# Altium footprint library Transmitter.PcbLib: 18 footprints (part 1 of 2)
Each footprint in its own frame and in the unit in brackets; x right, y up, seen from the top. Pads: shape width x height; smd on the part's side, far side on the other; paste and mask are expansions set on the pad; w line width, h text height; cw(c..) or ccw(c..) is an arc to the next point about the centre after c.
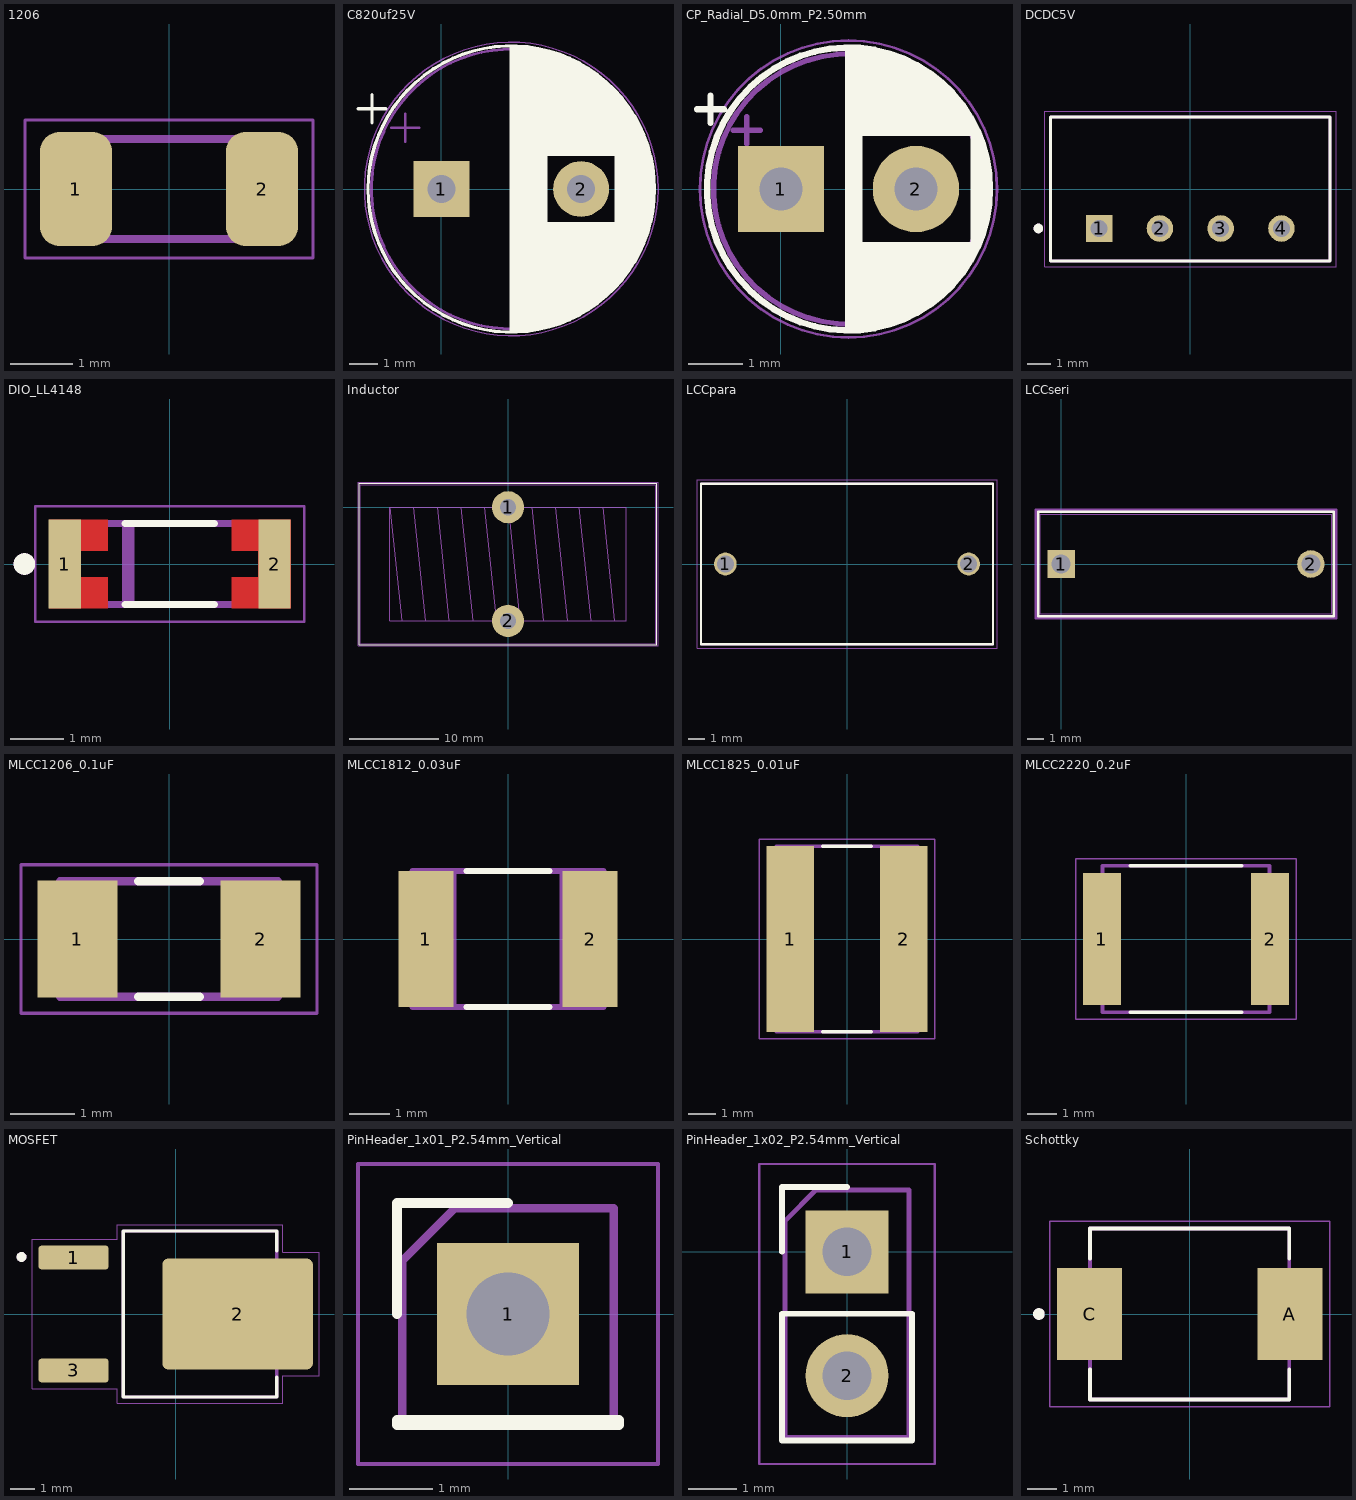
[diagram p0: the footprints below, top view; thin cyan lines are the x and y axes]

## 1206 [mm]
pads (2):
  rrect54% 1.15x1.82 smd: 1(-1.485,0) 2(1.485,0)
Mechanical 13:
  lines w0.127: -1.6,-0.8 -1.6,0.8 1.6,0.8 1.6,-0.8 -1.6,-0.8
Mechanical 15:
  lines w0.05: -2.3,-1.1 -2.3,1.1 2.3,1.1 2.3,-1.1 -2.3,-1.1
3D body "GRM31CR61C226KE15L.STEP": height 1.56, standoff -0.04, extent -1.651,-0.9 1.549,0.9

## C820uf25V [mm]
pads (2):
  rect 2x2 hole 1: 1(0,0)
  round 2 hole 1: 2(5,0)
Top Overlay:
  drawing of 193 lines, arcs and shapes, not listed
Mechanical 4:
  circle w0.05: c2.5,0 r5.25
Mechanical 6:
  circle w0.1: c2.5,0 r5
  lines w0.1: -1.789,2.187 -0.789,2.187 ; -1.289,1.687 -1.289,2.688
  text "'.Designator'" at 1.061,-0.398 h1
3D body "CP_Radial_D10.0mm_P5.00mm.step": height 10, standoff -2, extent -2.5,-4.998 7.5,5

## CP_Radial_D5.0mm_P2.50mm [mm]
pads (2):
  rect 1.6x1.6 hole 0.8: 1(0,0)
  round 1.6 hole 0.8: 2(2.5,0)
Top Overlay:
  circle w0.12: c1.25,0 r2.62
  lines w0.12: -1.555,1.475 -1.055,1.475 ; -1.305,1.225 -1.305,1.725 ; 1.25,-2.58 1.25,2.58 ; 1.29,-2.58 1.29,2.58 ; 1.33,-2.579 1.33,2.579 ; 1.37,-2.578 1.37,2.578 ; 1.41,-2.576 1.41,2.576 ; 1.45,-2.573 1.45,2.573 ; 1.49,-2.569 1.49,-1.04 ; 1.49,1.04 1.49,2.569 ; 1.53,-2.565 1.53,-1.04 ; 1.53,1.04 1.53,2.565 ; 1.57,-2.561 1.57,-1.04 ; 1.57,1.04 1.57,2.561 ; 1.61,-2.556 1.61,-1.04 ; 1.61,1.04 1.61,2.556 ; 1.65,-2.55 1.65,-1.04 ; 1.65,1.04 1.65,2.55 ; 1.69,-2.543 1.69,-1.04 ; 1.69,1.04 1.69,2.543 ; 1.73,-2.536 1.73,-1.04 ; 1.73,1.04 1.73,2.536 ; 1.77,-2.528 1.77,-1.04 ; 1.77,1.04 1.77,2.528 ; 1.81,-2.52 1.81,-1.04 ; 1.81,1.04 1.81,2.52 ; 1.85,-2.511 1.85,-1.04 ; 1.85,1.04 1.85,2.511 ; 1.89,-2.501 1.89,-1.04 ; 1.89,1.04 1.89,2.501 ; 1.93,-2.491 1.93,-1.04 ; 1.93,1.04 1.93,2.491 ; 1.971,-2.48 1.971,-1.04 ; 1.971,1.04 1.971,2.48 ; 2.011,-2.468 2.011,-1.04 ; 2.011,1.04 2.011,2.468 ; 2.051,-2.455 2.051,-1.04 ; 2.051,1.04 2.051,2.455 ; 2.091,-2.442 2.091,-1.04 ; 2.091,1.04 2.091,2.442 ; 2.131,-2.428 2.131,-1.04 ; 2.131,1.04 2.131,2.428 ; 2.171,-2.414 2.171,-1.04 ; 2.171,1.04 2.171,2.414 ; 2.211,-2.398 2.211,-1.04 ; 2.211,1.04 2.211,2.398 ; 2.251,-2.382 2.251,-1.04 ; 2.251,1.04 2.251,2.382 ; 2.291,-2.365 2.291,-1.04 ; 2.291,1.04 2.291,2.365 ; 2.331,-2.348 2.331,-1.04 ; 2.331,1.04 2.331,2.348 ; 2.371,-2.329 2.371,-1.04 ; 2.371,1.04 2.371,2.329 ; 2.411,-2.31 2.411,-1.04 ; 2.411,1.04 2.411,2.31 ; 2.451,-2.29 2.451,-1.04 ; 2.451,1.04 2.451,2.29 ; 2.491,-2.268 2.491,-1.04 ; 2.491,1.04 2.491,2.268 ; 2.531,-2.247 2.531,-1.04 ; 2.531,1.04 2.531,2.247 ; 2.571,-2.224 2.571,-1.04 ; 2.571,1.04 2.571,2.224 ; 2.611,-2.2 2.611,-1.04 ; 2.611,1.04 2.611,2.2 ; 2.651,-2.175 2.651,-1.04 ; 2.651,1.04 2.651,2.175 ; 2.691,-2.149 2.691,-1.04 ; 2.691,1.04 2.691,2.149 ; 2.731,-2.122 2.731,-1.04 ; 2.731,1.04 2.731,2.122 ; 2.771,-2.095 2.771,-1.04 ; 2.771,1.04 2.771,2.095 ; 2.811,-2.065 2.811,-1.04 ; 2.811,1.04 2.811,2.065 ; 2.851,-2.035 2.851,-1.04 ; 2.851,1.04 2.851,2.035 ; 2.891,-2.004 2.891,-1.04 ; 2.891,1.04 2.891,2.004 ; 2.931,-1.971 2.931,-1.04 ; 2.931,1.04 2.931,1.971 ; 2.971,-1.937 2.971,-1.04 ; 2.971,1.04 2.971,1.937 ; 3.011,-1.901 3.011,-1.04 ; 3.011,1.04 3.011,1.901 ; 3.051,-1.864 3.051,-1.04 ; 3.051,1.04 3.051,1.864 ; 3.091,-1.826 3.091,-1.04 ; 3.091,1.04 3.091,1.826 ; 3.131,-1.785 3.131,-1.04 ; 3.131,1.04 3.131,1.785 ; 3.171,-1.743 3.171,-1.04 ; 3.171,1.04 3.171,1.743 ; 3.211,-1.699 3.211,-1.04 ; 3.211,1.04 3.211,1.699 ; 3.251,-1.653 3.251,-1.04 ; 3.251,1.04 3.251,1.653 ; 3.291,-1.605 3.291,-1.04 ; 3.291,1.04 3.291,1.605 ; 3.331,-1.554 3.331,-1.04 ; 3.331,1.04 3.331,1.554 ; 3.371,-1.5 3.371,-1.04 ; 3.371,1.04 3.371,1.5 ; 3.411,-1.443 3.411,-1.04 ; 3.411,1.04 3.411,1.443 ; 3.451,-1.383 3.451,-1.04 ; 3.451,1.04 3.451,1.383 ; 3.491,-1.319 3.491,-1.04 ; 3.491,1.04 3.491,1.319 ; 3.531,-1.251 3.531,-1.04 ; 3.531,1.04 3.531,1.251 ; 3.571,-1.178 3.571,1.178 ; 3.611,-1.098 3.611,1.098 ; 3.651,-1.011 3.651,1.011 ; 3.691,-0.915 3.691,0.915 ; 3.731,-0.805 3.731,0.805 ; 3.771,-0.677 3.771,0.677 ; 3.811,-0.518 3.811,0.518 ; 3.851,-0.284 3.851,0.284
Mechanical 4:
  circle w0.05: c1.25,0 r2.75
Mechanical 6:
  circle w0.1: c1.25,0 r2.5
  lines w0.1: -0.884,1.088 -0.384,1.088 ; -0.634,0.837 -0.634,1.338
  text "'.Designator'" at -0.189,-0.398 h1
3D body "CP_Radial_D5.0mm_P2.50mm.step": height 5, standoff -2, extent -1.25,-2.5 3.75,2.5

## DCDC5V [mm]
height 10.15
pads (4):
  rect 1.11x1.11 / inner round 1.11 / far side rect 1.11x1.11 hole 0.71: 1(-3.81,-1.65)
  round 1.11 hole 0.71: 2(-1.27,-1.65) 3(1.27,-1.65) 4(3.81,-1.65)
Top Overlay:
  circle w0.2: c-6.35,-1.65 r0.1
  lines w0.127: -5.84,-3 5.84,-3 5.84,3 -5.84,3 -5.84,-3
Mechanical 13:
  circle w0.2: c-6.35,-1.65 r0.1
  lines w0.127: -5.84,-3 5.84,-3 5.84,3 -5.84,3 -5.84,-3
Mechanical 15:
  lines w0.05: -6.09,-3.25 -6.09,3.25 6.09,3.25 6.09,-3.25 -6.09,-3.25
3D body "step_temp.STEP": height 10.77, standoff -2.43, extent -5.711,-2.952 5.969,3.048

## DIO_LL4148 [mm]
height 1.5
pads (2):
  rect 0.6x1.65 smd: 1(-1.95,0) 2(1.95,0)
Top Layer:
  region: -1.15,0.25 -1.65,0.25 -1.65,-0.25 -1.15,-0.25 -1.15,-0.825 -2.24,-0.825 -2.24,0.825 -1.15,0.825
  region: 2.25,-0.825 1.15,-0.825 1.15,-0.25 1.65,-0.25 1.65,0.25 1.15,0.25 1.15,0.825 2.25,0.825
Top Overlay:
  circle w0.2: c-2.7,0 r0.1
  lines w0.127: -0.83,-0.75 0.83,-0.75 ; -0.83,0.75 0.83,0.75
Top Paste:
  region: -1.15,0.25 -1.65,0.25 -1.65,0.825 -1.15,0.825
  region: -1.15,-0.825 -1.65,-0.825 -1.65,-0.25 -1.15,-0.25
  region: -1.15,-0.825 -1.65,-0.825 -1.65,-0.25 -1.15,-0.25
  region: 1.65,-0.825 1.15,-0.825 1.15,-0.25 1.65,-0.25
  region: 1.65,0.25 1.15,0.25 1.15,0.825 1.65,0.825
  region: 1.65,0.25 1.15,0.25 1.15,0.825 1.65,0.825
Top Solder:
  region: -1.05,0.15 -1.55,0.15 -1.55,0.925 -1.05,0.925
  region: -1.05,-0.925 -1.55,-0.925 -1.55,-0.15 -1.05,-0.15
  region: 1.55,-0.925 1.05,-0.925 1.05,-0.15 1.55,-0.15
  region: 1.55,0.15 1.05,0.15 1.05,0.925 1.55,0.925
Mechanical 13:
  circle w0.2: c-2.7,0 r0.1
  lines w0.127: -0.82,-0.75 -0.82,0.75 ; -0.72,-0.75 -0.72,0.75 ; -1.82,-0.75 -1.82,0.75 1.82,0.75 1.82,-0.75 -1.82,-0.75
Mechanical 15:
  lines w0.05: -2.5,-1.075 -2.5,1.075 2.5,1.075 2.5,-1.075 -2.5,-1.075
3D body "step_temp.STEP": height 1.4, standoff 0, extent -1.7,-0.7 1.7,0.7

## Inductor [mm]
pads (2):
  round 3.6 hole 1.8: 1(0,0) 2(0,-12.7)
Top Overlay:
  lines w0.12: -16.631,-15.36 -16.631,2.66 16.631,2.66 16.631,-15.36 -16.631,-15.36
Mechanical 4:
  lines w0.05: -16.77,-15.49 16.77,-15.49 16.77,2.8 -16.77,2.8 -16.77,-15.49
Mechanical 6:
  lines w0.1: -11.887,-12.7 -13.208,0 ; -10.566,0 -9.246,-12.7 ; -7.925,0 -6.604,-12.7 ; -5.283,0 -3.962,-12.7 ; -2.642,0 -1.321,-12.7 ; 0,0 1.321,-12.7 ; 2.642,0 3.962,-12.7 ; 5.283,0 6.604,-12.7 ; 7.925,0 9.246,-12.7 ; 10.566,0 11.887,-12.7 ; -13.208,0 13.208,0 13.208,-12.7 -13.208,-12.7 -13.208,0 ; -16.51,-15.24 16.51,-15.24 16.51,2.54 -16.51,2.54 -16.51,-15.24
  text "'.Designator'" at 4.911,-0.398 h1
3D body "inductor2 v1.step": height 36.79, standoff -10.7, extent -23.39,-13.219 24.138,0.776

## LCCpara [mm]
pads (2):
  round 1.4 hole 1.05: 1(-7.5,0) 2(7.5,0)
Top Overlay:
  lines w0.127: -9,-4.95 -9,4.95 9,4.95 9,-4.95 -9,-4.95
Mechanical 13:
  lines w0.127: -9,-4.95 9,-4.95 9,4.95 -9,4.95 -9,-4.95
Mechanical 15:
  lines w0.05: -9.25,-5.2 9.25,-5.2 9.25,5.2 -9.25,5.2 -9.25,-5.2
3D body "ECWF4364HL.step": height 16.2, standoff -23.5, extent -9,-4.95 9,4.95

## LCCseri [mil]
pads (2):
  rect 65x65 hole 45: 1(0,0)
  round 65 hole 45: 2(590.55,0)
Top Overlay:
  lines w6: -54.22,-123 644.78,-123 644.78,123 -54.22,123 -54.22,-123
Mechanical 4:
  lines w6: -59.22,-128 -59.22,128 649.78,128 649.78,-128 -59.22,-128
Mechanical 6:
  lines w1: -49.22,-118 639.78,-118 639.78,118 -49.22,118 -49.22,-118
  text "'.Designator'" at 238.64,-15.69 h39.37
3D body "CAP_BFC238330183_VIS.step": height 472.01, standoff -205, extent -47.28,-112.99 641.73,122.99

## MLCC1206_0.1uF [mm]
pads (2):
  rect 1.25x1.82 smd: 1(-1.43,0) 2(1.43,0)
Top Overlay:
  lines w0.127: -0.48,-0.9 0.48,-0.9 ; -0.48,0.9 0.48,0.9
Mechanical 13:
  lines w0.127: -1.7,-0.9 1.7,-0.9 1.7,0.9 -1.7,0.9 -1.7,-0.9
Mechanical 15:
  lines w0.05: -2.308,-1.158 2.308,-1.158 2.308,1.158 -2.308,1.158 -2.308,-1.158
3D body "step_temp.STEP": height 1.8, standoff 0, extent -1.6,-0.8 1.6,0.8

## MLCC1812_0.03uF [mil]
pads (2):
  rect 54x134 smd: 1(-81,0) 2(81,0)
Top Overlay:
  lines w6: -41,-67 41,-67 ; -41,67 41,67
Mechanical 13:
  lines w6: -54,-67 -54,67 ; -54,-67 -94,-67 -94,67 -54,67 ; -54,-67 54,-67 ; -54,67 54,67 ; 54,-67 54,67 ; 54,-67 94,-67 94,67 54,67
3D body "step_temp.STEP": height 97.24, standoff -2.76, extent -88.58,-62.99 88.58,62.99

## MLCC1825_0.01uF [mm]
pads (2):
  rect 1.71x6.71 smd: 1(-2.05,0) 2(2.05,0)
Top Overlay:
  lines w0.127: -0.88,-3.35 0.88,-3.35 ; -0.88,3.35 0.88,3.35
Mechanical 13:
  lines w0.127: -2.55,-3.35 -2.55,3.35 2.55,3.35 2.55,-3.35 -2.55,-3.35
Mechanical 15:
  lines w0.05: -3.153,-3.6 -3.153,3.6 3.153,3.6 3.153,-3.6 -3.153,-3.6
3D body "1825.STEP": height 3.4, standoff 0, extent -2.314,-3.15 2.286,3.15

## MLCC2220_0.2uF [mm]
height 2.8
pads (2):
  rect 1.3x4.5 smd: 1(-2.875,0) 2(2.875,0)
Top Overlay:
  lines w0.127: -1.905,-2.5 1.905,-2.5 ; -1.905,2.5 1.905,2.5
Mechanical 13:
  lines w0.127: -2.85,-2.5 2.85,-2.5 2.85,2.5 -2.85,2.5 -2.85,-2.5
Mechanical 15:
  lines w0.05: -3.775,-2.75 3.775,-2.75 3.775,2.75 -3.775,2.75 -3.775,-2.75
3D body "step_temp.STEP": height 2.8, standoff 0, extent -2.85,-2.5 2.85,2.5

## MOSFET [mm]
pads (3):
  rrect25% 2.83x0.97 smd: 1(-4.14,2.29) 3(-4.14,-2.29)
  rrect10% 6.1x4.49 smd paste-4: 2(2.51,0)
Top Overlay:
  circle w0.2: c-6.25,2.312 r0.1
  lines w0.127: 4.098,-2.565 4.098,-3.37 -2.123,-3.37 -2.123,3.37 4.098,3.37 4.098,2.565
Top Paste:
  region: 3.275,0.375 1.745,0.375 1.745,1.865 3.275,1.865
  region: 1.245,0.375 -0.285,0.375 -0.285,1.865 1.245,1.865
  region: 5.305,0.375 3.775,0.375 3.775,1.865 5.305,1.865
  region: 1.245,-1.865 -0.285,-1.865 -0.285,-0.375 1.245,-0.375
  region: 3.275,-1.865 1.745,-1.865 1.745,-0.375 3.275,-0.375
  region: 5.305,-1.865 3.775,-1.865 3.775,-0.375 5.305,-0.375
Mechanical 13:
  circle w0.2: c-6.25,2.312 r0.1
  lines w0.127: -2.123,-3.37 -2.123,3.37 4.098,3.37 4.098,-3.37 -2.123,-3.37
Mechanical 15:
  lines w0.05: -5.805,-3.025 -5.805,3.025 -2.373,3.025 -2.373,3.62 4.348,3.62 4.348,2.495 5.81,2.495 5.81,-2.495 4.348,-2.495 4.348,-3.62 -2.373,-3.62 -2.373,-3.025 -5.805,-3.025
3D body "IRLR8743TRPBF.STEP": height 2.39, standoff -0.13, extent -5.333,-3.27 4.571,3.27

## PinHeader_1x01_P2.54mm_Vertical [mm]
pads (1):
  rect 1.7x1.7 hole 1: 1(0,0)
Top Overlay:
  lines w0.12: -1.33,0 -1.33,1.33 0,1.33 ; -1.33,-1.33 1.33,-1.33 1.33,-1.27 -1.33,-1.27 -1.33,-1.33
Mechanical 4:
  lines w0.05: -1.8,-1.8 -1.8,1.8 1.8,1.8 1.8,-1.8 -1.8,-1.8
Mechanical 6:
  lines w0.1: -1.27,-1.27 1.27,-1.27 1.27,1.27 -0.635,1.27 -1.27,0.635 -1.27,-1.27
  text "'.Designator'" at 0.398,-1.439 h1
3D body "PinHeader_1x01_P2.54mm_Vertical.step": height 8.54, standoff -3, extent -1.27,-1.27 1.27,1.27

## PinHeader_1x02_P2.54mm_Vertical [mm]
pads (2):
  rect 1.7x1.7 hole 1: 1(0,0)
  rrect100% 1.7x1.7 hole 1: 2(0,-2.54)
Top Overlay:
  lines w0.12: -1.33,0 -1.33,1.33 0,1.33 ; -1.33,-3.87 1.33,-3.87 1.33,-1.27 -1.33,-1.27 -1.33,-3.87
Mechanical 4:
  lines w0.05: -1.8,-4.35 -1.8,1.8 1.8,1.8 1.8,-4.35 -1.8,-4.35
Mechanical 6:
  lines w0.1: -1.27,-3.81 1.27,-3.81 1.27,1.27 -0.635,1.27 -1.27,0.635 -1.27,-3.81
  text "'.Designator'" at 0.398,-2.709 h1
3D body "PinHeader_1x02_P2.54mm_Vertical.step": height 8.54, standoff -3, extent -1.27,-3.81 1.27,1.27

## Schottky [mm]
height 2.65
pads (2):
  rect 2.25x3.18 smd: A(3.455,0) C(-3.455,0)
Top Overlay:
  circle w0.2: c-5.2,0 r0.1
  lines w0.127: -3.437,-1.91 -3.437,-2.95 3.437,-2.95 3.437,-1.91 ; -3.437,1.91 -3.437,2.95 3.437,2.95 3.437,1.91
Mechanical 13:
  circle w0.2: c-5.2,0 r0.1
  lines w0.127: -3.437,-2.95 3.437,-2.95 3.437,2.95 -3.437,2.95 -3.437,-2.95
Mechanical 15:
  lines w0.05: -4.83,-3.2 -4.83,3.2 4.83,3.2 4.83,-3.2 -4.83,-3.2
3D body "step_temp.STEP": height 2.65, standoff 0, extent -3.975,-2.95 3.975,2.95